# EAGLE library part MEGA_DEVICE (library Eagle_CAD_parts)
mega card as device
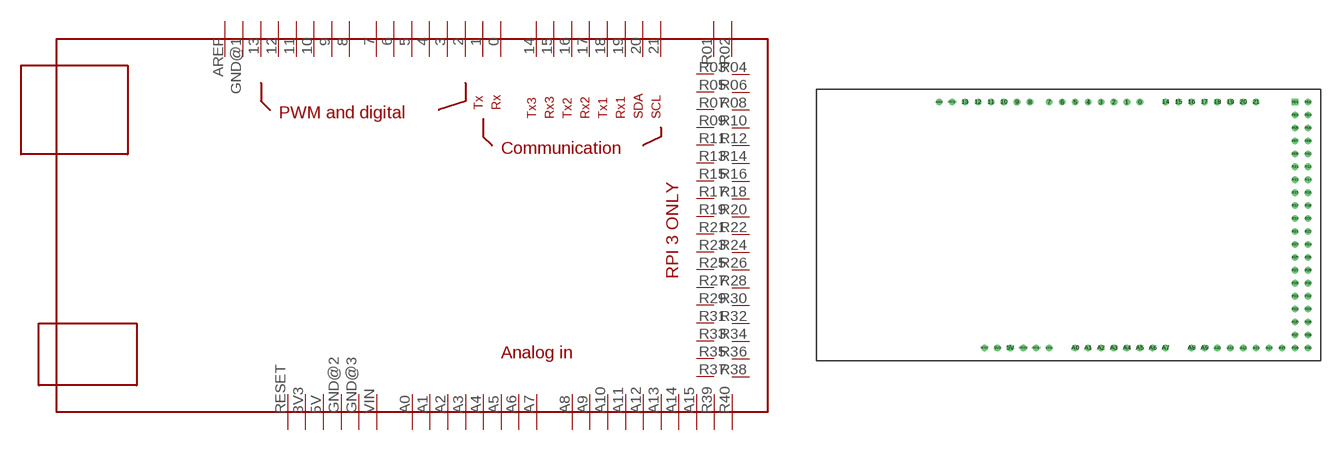
[diagram p9: symbol with the pads of MEGABOX; footprint MEGABOX]

Designator prefix -

## MEGA_DEVICE  [MEGABOX]
0  0
1  1
2  2
3  3
3V3  3V3
4  4
5  5
5V  5V
6  6
7  7
8  8
9  9
10  10
11  11
12  12
13  13
14  14
15  15
16  16
17  17
18  18
19  19
20  20
21  21
A0  A0
A1  A1
A2  A2
A3  A3
A4  A4
A5  A5
A6  A6
A7  A7
A8  A8
A9  A9
A10  A10
A11  A11
A12  A12
A13  A13
A14  A14
A15  A15
AREF  AREF
GND@1  GND
GND@2  GND
GND@3  GND
R01  3.3V
R02  5V1
R03  SDA1
R04  5V2
R05  SCL1
R06  GND
R07  GCLK
R08  TXD0
R09  GND
R10  RXD0
R11  GEN0
R12  GEN1
R13  GEN2
R14  GND
R15  GEN3
R16  GEN4
R17  3.3V
R18  GEN5
R19  SPI_MOSI
R20  GND
R21  SPI_MISO
R22  GEN6
R23  SPI_CLK
R24  SPI_CE0_N
R25  GND
R26  SPI_CE1_N
R27  ID_SD
R28  ID_SC
R29  GPIO5
R30  GND
R31  GPIO6
R32  GPIO12
R33  GPIO13
R34  GND
R35  GPIO19
R36  GPIO16
R37  GPIO26
R38  GPIO20
R39  GND
R40  GPIO21
RESET  RESET
VIN  VIN

## Footprint MEGABOX (pad centres in mm)
Empty box
drill 0.8: 0 12.7,24.13; 1 10.16,24.13; 2 7.62,24.13; 3 5.08,24.13; 3V3 -15.24,-24.13; 4 2.54,24.13; 5 0,24.13; 5V -12.7,-24.13; 6 -2.54,24.13; 7 -5.08,24.13; 8 -8.89,24.13; 9 -11.43,24.13; 10 -13.97,24.13; 11 -16.51,24.13; 12 -19.05,24.13; 13 -21.59,24.13; 14 17.78,24.13; 15 20.32,24.13; 16 22.86,24.13; 17 25.4,24.13; 18 27.94,24.13; 19 30.48,24.13; 20 33.02,24.13; 21 35.56,24.13; A0 0,-24.13; A1 2.54,-24.13; A2 5.08,-24.13; A3 7.62,-24.13; A4 10.16,-24.13; A5 12.7,-24.13; A6 15.24,-24.13; A7 17.78,-24.13; A8 22.86,-24.13; A9 25.4,-24.13; A10 27.94,-24.13; A11 30.48,-24.13; A12 33.02,-24.13; A13 35.56,-24.13; A14 38.1,-24.13; A15 40.64,-24.13; AREF -26.67,24.13; GND@1 -24.13,24.13; GND@2 -10.16,-24.13; GND@3 -7.62,-24.13; R02 45.72,24.13; R03 43.18,21.59; R04 45.72,21.59; R05 43.18,19.05; R06 45.72,19.05; R07 43.18,16.51; R08 45.72,16.51; R09 43.18,13.97; R10 45.72,13.97; R11 43.18,11.43; R12 45.72,11.43; R13 43.18,8.89; R14 45.72,8.89; R15 43.18,6.35; R16 45.72,6.35; R17 43.18,3.81; R18 45.72,3.81; R19 43.18,1.27; R20 45.72,1.27; R21 43.18,-1.27; R22 45.72,-1.27; R23 43.18,-3.81; R24 45.72,-3.81; R25 43.18,-6.35; R26 45.72,-6.35; R27 43.18,-8.89; R28 45.72,-8.89; R29 43.18,-11.43; R30 45.72,-11.43; R31 43.18,-13.97; R32 45.72,-13.97; R33 43.18,-16.51; R34 45.72,-16.51; R35 43.18,-19.05; R36 45.72,-19.05; R37 43.18,-21.59; R38 45.72,-21.59; R39 43.18,-24.13; R40 45.72,-24.13; RESET -17.78,-24.13; VIN -5.08,-24.13
drill 0.8 square: R01 43.18,24.13